# Altium schematic symbol library Molex Microfit 3.0 8x1.SchLib: 1 symbol
Pins are listed as number, name and electrical type; pins without a type are passive.

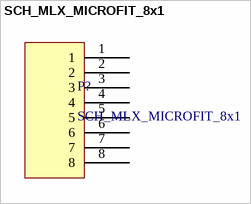
[diagram p0: symbol SCH_MLX_MICROFIT_8x1]

## SCH_MLX_MICROFIT_8x1
designator P?
molex microfit 8x1 connector
footprint PCB_MLX_MICROFIT_8X1 (Molex Microfit 8x1 connector)
pins: 1, 2, 3, 4, 5, 6, 7, 8